# Altium footprint library ACS758ECB-200U-PFF.PcbLib: 1 footprints
Each footprint in its own frame and in the unit in brackets; x right, y up, seen from the top. Pads: shape width x height; smd on the part's side, far side on the other; paste and mask are expansions set on the pad; w line width, h text height; cw(c..) or ccw(c..) is an arc to the next point about the centre after c.
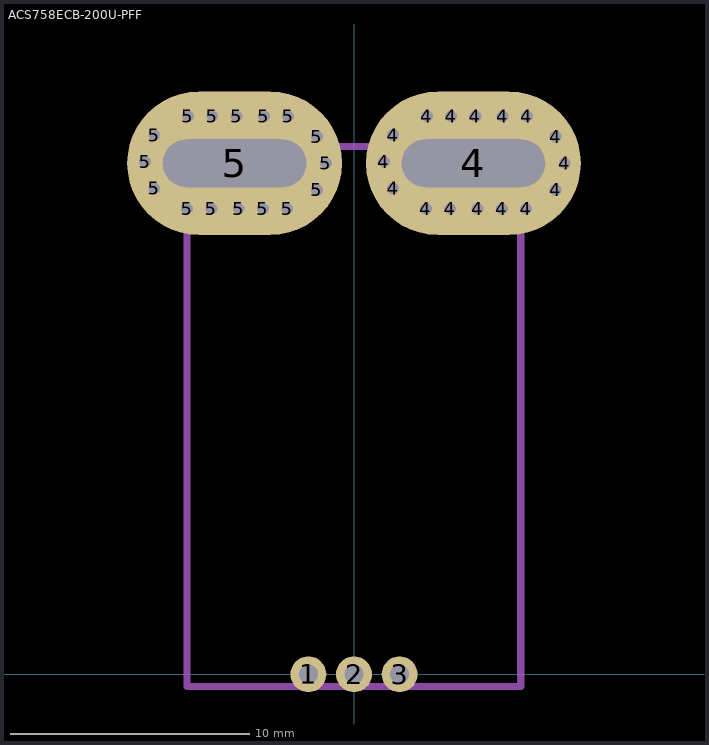
[diagram p0: the footprint, top view; thin cyan lines are the x and y axes]

## ACS758ECB-200U-PFF [mm]
pads (37):
  round 1.5 hole 0.8: 1(-1.91,0) 2(0,0) 3(1.91,0)
  round 1 hole 0.5: 4(1.254,21.463) 4(1.635,20.349) 4(1.635,22.577) 4(3.014,19.495) 4(3.048,23.368) 4(4.03,19.495) 4(4.064,23.368) 4(5.08,23.368) 4(5.173,19.495) 4(6.189,19.495) 4(6.223,23.368) 4(7.205,19.495) 4(7.239,23.368) 4(8.445,20.286) 4(8.445,22.514) 4(8.826,21.4) 5(-8.746,21.463) 5(-8.365,20.349) 5(-8.365,22.577) 5(-6.986,19.495) 5(-6.952,23.368) 5(-5.97,19.495) 5(-5.936,23.368) 5(-4.92,23.368) 5(-4.827,19.495) 5(-3.811,19.495) 5(-3.777,23.368) 5(-2.795,19.495) 5(-2.761,23.368) 5(-1.555,20.286) 5(-1.555,22.514) 5(-1.174,21.4)
  oval 9x6 hole 2 slot 6 at 0 deg: 4(5,21.4) 5(-5,21.4)
Mechanical 1:
  lines w0.3: 0,-0.508 6.985,-0.508 6.985,22.098 -7,22.098 -7,-0.508 1.016,-0.508
Mechanical 13:
  text ".Designator" at -1.651,13.208 h1.5
3D body: height 7.5, standoff -3.01, extent -7,-0.508 7,22.314